# EAGLE library part IS66WV51216EBLL (library 68komputer)
8Mb LOW VOLTAGE, ULTRA LOW POWER PSEUDO CMOS STATIC RAM Datasheet <https://www.mouser.com/datasheet/2/198/66WV51216EALL-EBLL-462627.pdf>
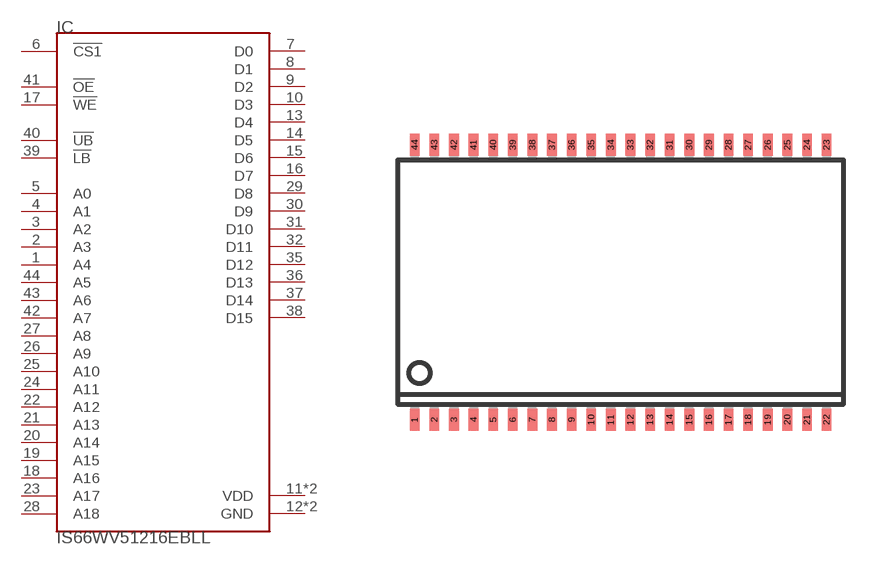
[diagram p7: symbol with the pads of TSOP44-II; footprint TSOP44-II]

Designator prefix IC

## IS66WV51216EBLLTSOP-44  [TSOP44-II]
1  A4  in
2  A3  in
3  A2  in
4  A1  in
5  A0  in
6  !CS1  in
7  D0
8  D1
9  D2
10  D3
11  VDD  pwr
12  GND  pwr
13  D4
14  D5
15  D6
16  D7
17  !WE  in
18  A16  in
19  A15  in
20  A14  in
21  A13  in
22  A12  in
23  A17  in
24  A11  in
25  A10  in
26  A9  in
27  A8  in
28  A18  in
29  D8
30  D9
31  D10
32  D11
33  VDD  pwr
34  GND  pwr
35  D12
36  D13
37  D14
38  D15
39  !LB  in
40  !UB  in
41  !OE  in
42  A7  in
43  A6  in
44  A5  in

## Footprint TSOP44-II (pad centres in mm)
44 lead Plastic Thin Small Outline Type II Source: http://us.st.com/stonline/products/literature/ds/7995.pdf
smd 0.4 x 0.9: 1 -8.4,-5.6; 2 -7.6,-5.6; 3 -6.8,-5.6; 4 -6,-5.6; 5 -5.2,-5.6; 6 -4.4,-5.6; 7 -3.6,-5.6; 8 -2.8,-5.6; 9 -2,-5.6; 10 -1.2,-5.6; 11 -0.4,-5.6; 12 0.4,-5.6; 13 1.2,-5.6; 14 2,-5.6; 15 2.8,-5.6; 16 3.6,-5.6; 17 4.4,-5.6; 18 5.2,-5.6; 19 6,-5.6; 20 6.8,-5.6; 21 7.6,-5.6; 22 8.4,-5.6; 23 8.4,5.6; 24 7.6,5.6; 25 6.8,5.6; 26 6,5.6; 27 5.2,5.6; 28 4.4,5.6; 29 3.6,5.6; 30 2.8,5.6; 31 2,5.6; 32 1.2,5.6; 33 0.4,5.6; 34 -0.4,5.6; 35 -1.2,5.6; 36 -2,5.6; 37 -2.8,5.6; 38 -3.6,5.6; 39 -4.4,5.6; 40 -5.2,5.6; 41 -6,5.6; 42 -6.8,5.6; 43 -7.6,5.6; 44 -8.4,5.6